# EAGLE library part LL1660 (library wheat)
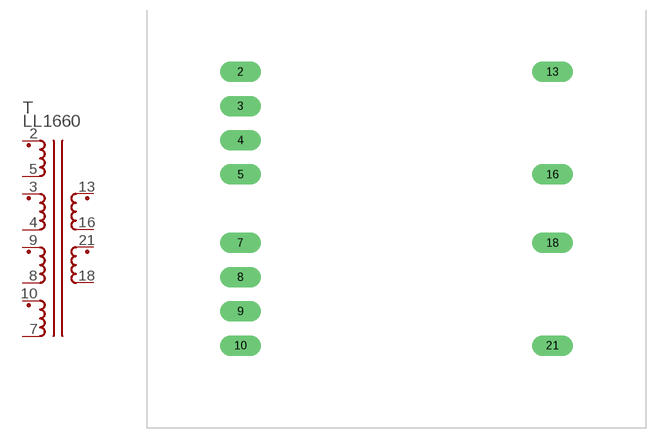
[diagram p260: symbol with the pads of LL1660; footprint LL1660]

Designator prefix T

## LL1660  [LL1660]
2  2  pas
3  3  pas
4  4  pas
5  5  pas
7  7  pas
8  8  pas
9  9  pas
10  10  pas
13  13  pas
16  16  pas
18  18  pas
21  21  pas

## Footprint LL1660 (pad centres in mm)
drill 2 pad 3 long: 2 -22.8,52; 3 -22.8,47; 4 -22.8,42; 5 -22.8,37; 7 -22.8,27; 8 -22.8,22; 9 -22.8,17; 10 -22.8,12; 13 22.8,52; 16 22.8,37; 18 22.8,27; 21 22.8,12